# EAGLE library part DS2438Z+ (library 1-Wire_for_Selfbus-Projects)
Smart Battery Monitor
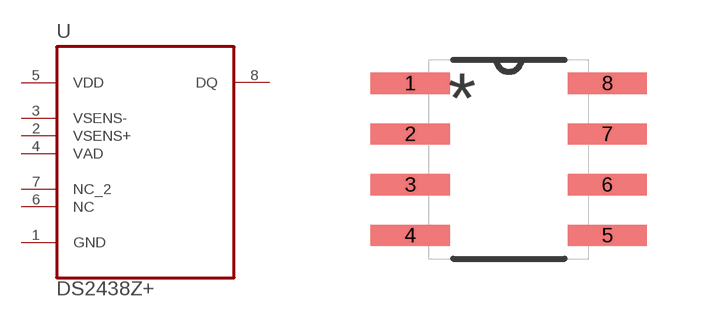
[diagram p0: symbol with the pads of SOIC127P600X175-8N; footprint SOIC127P600X175-8N]

Designator prefix U

## DS2438Z+ (MPN: DS2438Z+; OC_FARNELL: 1455593; OC_NEWARK: 27K7484; PACKAGE: SOIC-8; SUPPLIER: Maxim)  [SOIC127P600X175-8N]
1  GND  pas
2  VSENS+  in
3  VSENS-  in
4  VAD  in
5  VDD  pwr
6  NC  nc
7  NC_2  nc
8  DQ

## Footprint SOIC127P600X175-8N (pad centres in mm)
Small Outline Package
smd 1.981 x 0.533: 1 -2.464,1.905; 2 -2.464,0.635; 3 -2.464,-0.635; 4 -2.464,-1.905; 5 2.464,-1.905; 6 2.464,-0.635; 7 2.464,0.635; 8 2.464,1.905